# Altium integrated library ZMDI Sensor Signal Conditioner.IntLib: 63 symbols (part 2 of 3)
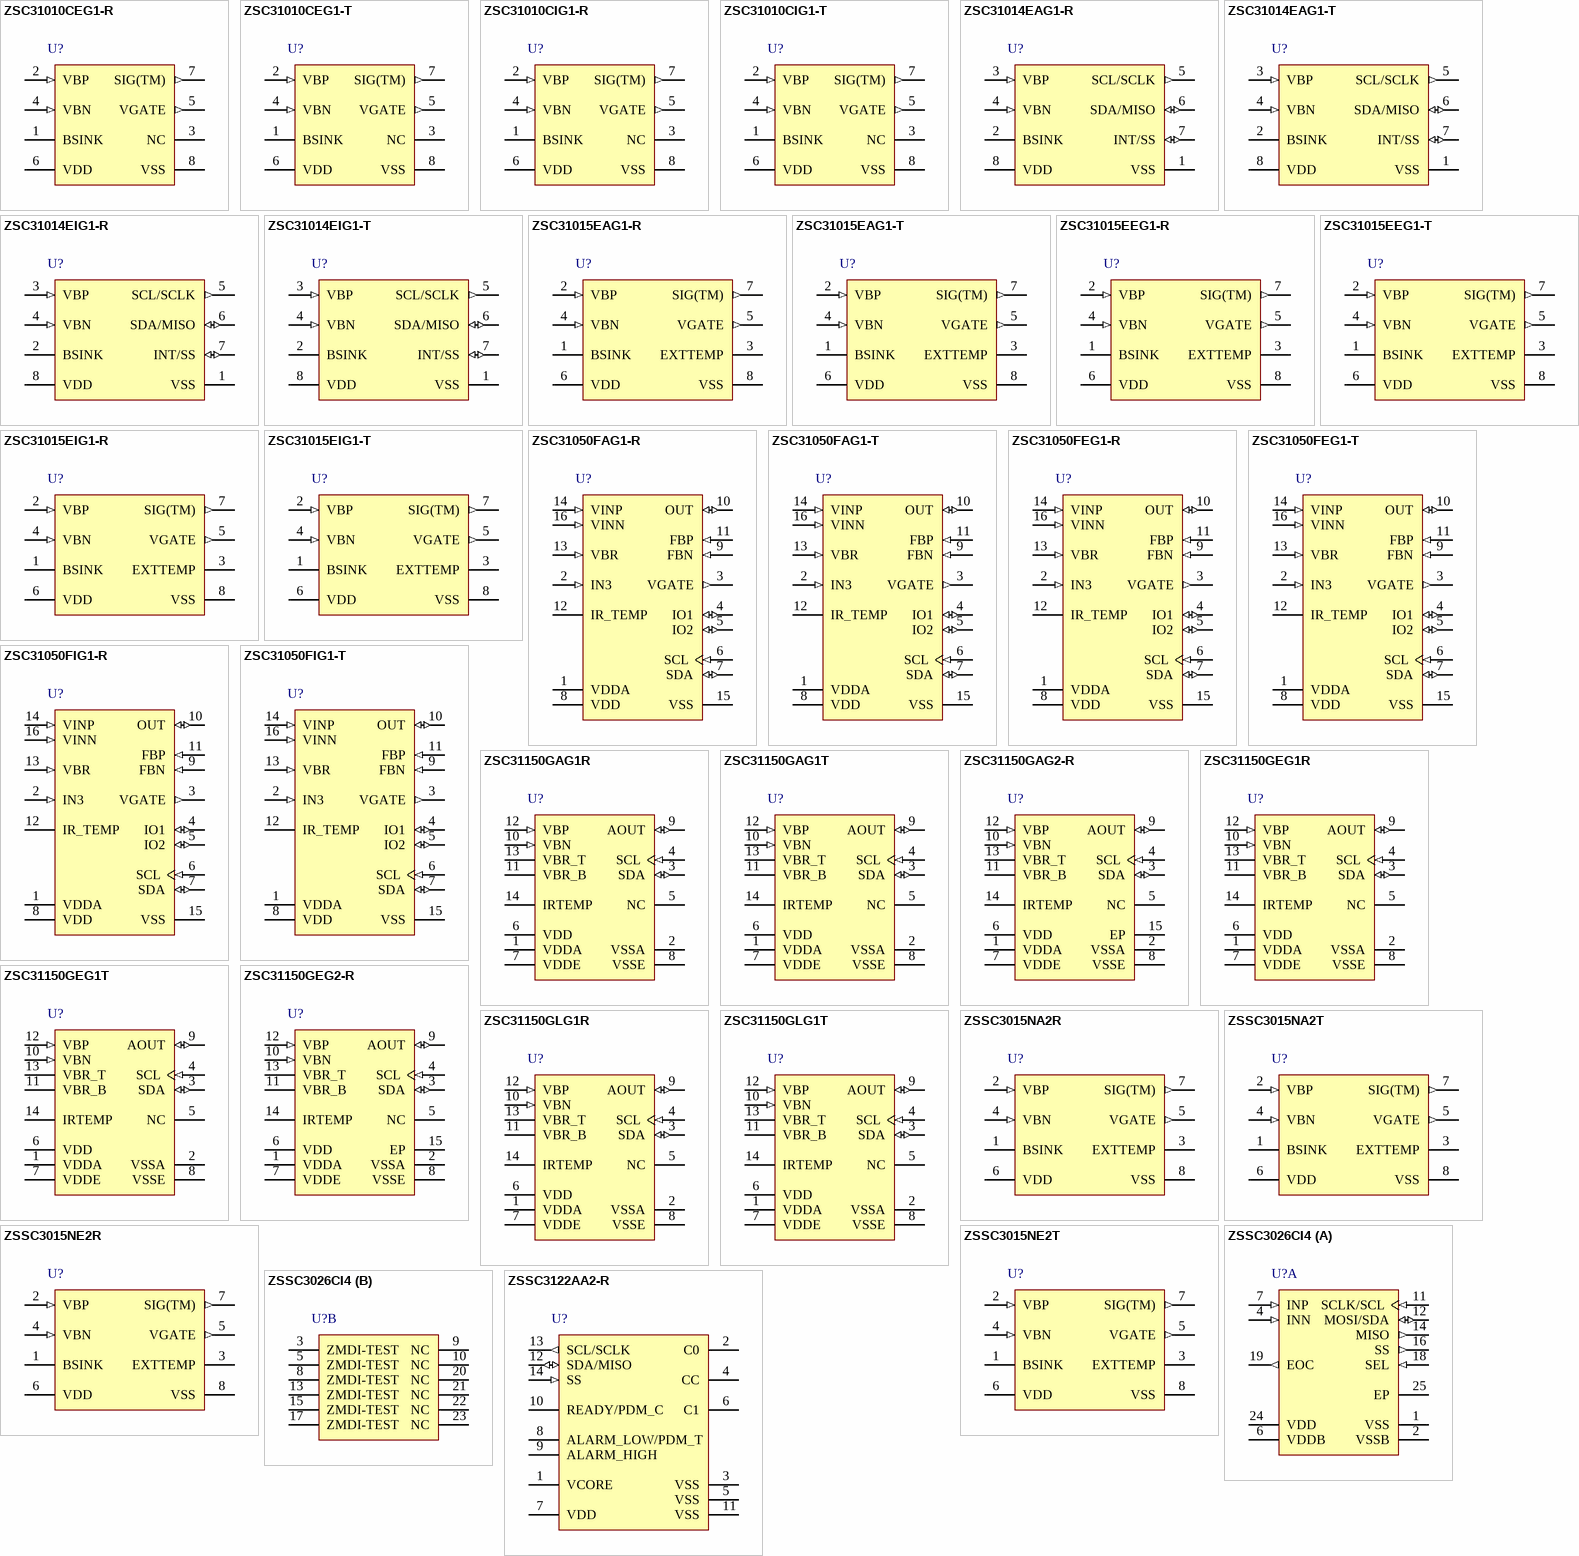
[diagram p3: symbols ZSC31010CEG1-R to ZSSC3122AA2-R]

## ZSSC3015NA2R
designator U?
RBicdLite-Auto(TM) Sensor Signal Conditioner with Diagnostics, 2.7 to 5.5 V Supply Voltage, -40 to 125 degC, 8-Pin SOP, Reel, RoHS; Manufacturer: ZMDI; PartNumber: ZSSC3015NA2R; ADC Resolution: 14; Adjustable Analog Gain Values: 6 to 96; DatasheetVersion: Rev. 1.02; PackageReference: SOP8 (150mil); PackageDescription: 8-Pin Plastic Small Outline, 4.9 x 3.9 mm Body, 1.27 mm Pitch; Supplier 1: Mouser; Supplier Part Number 1: 964-ZSSC3015NA2R; Mounting Technology: Surface Mount; ComponentLink1Description: Manufacturer URL; ComponentLink1URL: http://www.zmdi.com/; ComponentLink2Description: Datasheet; ComponentLink2URL: http://zmdi.cdistore.com/datasheets/zmdi/ZSSC3015_RBic_dLite-Auto_Data_Sheet_rev_1_02_2013-03-25.pdf; ComponentLink3Description: Package Specification; ComponentLink3URL: http://www.zmdi.com/sites/default/files/ZLED7010_DataSheet_Rev_1.1.pdf
footprint ZMDI-SOP8 (150mil)_N (SOP, 8-Leads, Body 5x4mm, Pitch 1.27mm, IPC Medium Density)
footprint ZMDI-SOP8 (150mil)_L (SOP, 8-Leads, Body 5x4mm, Pitch 1.27mm, IPC High Density)
footprint ZMDI-SOP8 (150mil)_M (SOP, 8-Leads, Body 5x4mm, Pitch 1.27mm, IPC Low Density)
pins: 1 BSINK (power) "Optional ground connection for bridge ground; used for power savings", 2 VBP (in) "Positive bridge connection", 3 EXTTEMP "External diode connection", 4 VBN (in) "Negative bridge connection", 5 VGATE (out) "Gate control for external JFET regulation/over-voltage protection", 6 VDD (power) "Supply voltage (2.7 to 5.5 V)", 7 SIG(TM) (out) "ZACwire(TM) interface (analog out, digital out, calibration interface)", 8 VSS (power) "Ground supply"

## ZSSC3015NA2T
designator U?
RBicdLite-Auto(TM) Sensor Signal Conditioner with Diagnostics, 2.7 to 5.5 V Supply Voltage, -40 to 125 degC, 8-Pin SOP, Tube, RoHS; Manufacturer: ZMDI; PartNumber: ZSSC3015NA2T; ADC Resolution: 14; Adjustable Analog Gain Values: 6 to 96; DatasheetVersion: Rev. 1.02; PackageReference: SOP8 (150mil); PackageDescription: 8-Pin Plastic Small Outline, 4.9 x 3.9 mm Body, 1.27 mm Pitch; Supplier 1: Mouser; Supplier Part Number 1: 964-ZSSC3015NA2T; Mounting Technology: Surface Mount; ComponentLink1Description: Manufacturer URL; ComponentLink1URL: http://www.zmdi.com/; ComponentLink2Description: Datasheet; ComponentLink2URL: http://zmdi.cdistore.com/datasheets/zmdi/ZSSC3015_RBic_dLite-Auto_Data_Sheet_rev_1_02_2013-03-25.pdf; ComponentLink3Description: Package Specification; ComponentLink3URL: http://www.zmdi.com/sites/default/files/ZLED7010_DataSheet_Rev_1.1.pdf
footprint ZMDI-SOP8 (150mil)_N (SOP, 8-Leads, Body 5x4mm, Pitch 1.27mm, IPC Medium Density)
footprint ZMDI-SOP8 (150mil)_L (SOP, 8-Leads, Body 5x4mm, Pitch 1.27mm, IPC High Density)
footprint ZMDI-SOP8 (150mil)_M (SOP, 8-Leads, Body 5x4mm, Pitch 1.27mm, IPC Low Density)
pins: 1 BSINK (power) "Optional ground connection for bridge ground; used for power savings", 2 VBP (in) "Positive bridge connection", 3 EXTTEMP "External diode connection", 4 VBN (in) "Negative bridge connection", 5 VGATE (out) "Gate control for external JFET regulation/over-voltage protection", 6 VDD (power) "Supply voltage (2.7 to 5.5 V)", 7 SIG(TM) (out) "ZACwire(TM) interface (analog out, digital out, calibration interface)", 8 VSS (power) "Ground supply"

## ZSSC3015NE2R
designator U?
RBicdLite-Auto(TM) Sensor Signal Conditioner with Diagnostics, 2.7 to 5.5 V Supply Voltage, -50 to 150 degC, 8-Pin SOP, Reel, RoHS; Manufacturer: ZMDI; PartNumber: ZSSC3015NE2R; ADC Resolution: 14; Adjustable Analog Gain Values: 6 to 96; DatasheetVersion: Rev. 1.02; PackageReference: SOP8 (150mil); PackageDescription: 8-Pin Plastic Small Outline, 4.9 x 3.9 mm Body, 1.27 mm Pitch; Supplier 1: Mouser; Supplier Part Number 1: 964-ZSSC3015NE2R; Mounting Technology: Surface Mount; ComponentLink1Description: Manufacturer URL; ComponentLink1URL: http://www.zmdi.com/; ComponentLink2Description: Datasheet; ComponentLink2URL: http://zmdi.cdistore.com/datasheets/zmdi/ZSSC3015_RBic_dLite-Auto_Data_Sheet_rev_1_02_2013-03-25.pdf; ComponentLink3Description: Package Specification; ComponentLink3URL: http://www.zmdi.com/sites/default/files/ZLED7010_DataSheet_Rev_1.1.pdf
footprint ZMDI-SOP8 (150mil)_N (SOP, 8-Leads, Body 5x4mm, Pitch 1.27mm, IPC Medium Density)
footprint ZMDI-SOP8 (150mil)_L (SOP, 8-Leads, Body 5x4mm, Pitch 1.27mm, IPC High Density)
footprint ZMDI-SOP8 (150mil)_M (SOP, 8-Leads, Body 5x4mm, Pitch 1.27mm, IPC Low Density)
pins: 1 BSINK (power) "Optional ground connection for bridge ground; used for power savings", 2 VBP (in) "Positive bridge connection", 3 EXTTEMP "External diode connection", 4 VBN (in) "Negative bridge connection", 5 VGATE (out) "Gate control for external JFET regulation/over-voltage protection", 6 VDD (power) "Supply voltage (2.7 to 5.5 V)", 7 SIG(TM) (out) "ZACwire(TM) interface (analog out, digital out, calibration interface)", 8 VSS (power) "Ground supply"

## ZSSC3015NE2T
designator U?
RBicdLite-Auto(TM) Sensor Signal Conditioner with Diagnostics, 2.7 to 5.5 V Supply Voltage, -50 to 150 degC, 8-Pin SOP, Tube, RoHS; Manufacturer: ZMDI; PartNumber: ZSSC3015NE2T; ADC Resolution: 14; Adjustable Analog Gain Values: 6 to 96; DatasheetVersion: Rev. 1.02; PackageReference: SOP8 (150mil); PackageDescription: 8-Pin Plastic Small Outline, 4.9 x 3.9 mm Body, 1.27 mm Pitch; Supplier 1: Mouser; Supplier Part Number 1: 964-ZSSC3015NE2T; Mounting Technology: Surface Mount; ComponentLink1Description: Manufacturer URL; ComponentLink1URL: http://www.zmdi.com/; ComponentLink2Description: Datasheet; ComponentLink2URL: http://zmdi.cdistore.com/datasheets/zmdi/ZSSC3015_RBic_dLite-Auto_Data_Sheet_rev_1_02_2013-03-25.pdf; ComponentLink3Description: Package Specification; ComponentLink3URL: http://www.zmdi.com/sites/default/files/ZLED7010_DataSheet_Rev_1.1.pdf
footprint ZMDI-SOP8 (150mil)_N (SOP, 8-Leads, Body 5x4mm, Pitch 1.27mm, IPC Medium Density)
footprint ZMDI-SOP8 (150mil)_L (SOP, 8-Leads, Body 5x4mm, Pitch 1.27mm, IPC High Density)
footprint ZMDI-SOP8 (150mil)_M (SOP, 8-Leads, Body 5x4mm, Pitch 1.27mm, IPC Low Density)
pins: 1 BSINK (power) "Optional ground connection for bridge ground; used for power savings", 2 VBP (in) "Positive bridge connection", 3 EXTTEMP "External diode connection", 4 VBN (in) "Negative bridge connection", 5 VGATE (out) "Gate control for external JFET regulation/over-voltage protection", 6 VDD (power) "Supply voltage (2.7 to 5.5 V)", 7 SIG(TM) (out) "ZACwire(TM) interface (analog out, digital out, calibration interface)", 8 VSS (power) "Ground supply"

## ZSSC3026CI4
designator U?
Low Power, High Resolution 16-Bit Sensor Signal Conditioner, 1.8 to 3.6 V Supply Voltage, -40 to 110 degC, 24-Pin PQFN, RoHS; Manufacturer: ZMDI; PartNumber: ZSSC3026CI4; ADC Resolution: 16; DatasheetVersion: Rev. 1.02; PackageReference: PQFN24; PackageDescription: 24-Pin Plastic Quad Flatpack, No Leads, 4 x 4 mm Body, 0.5 mm Pitch, 2.6 x 2.6 mm Exposed Pad; Supplier 1: Mouser; Supplier Part Number 1: 964-ZSSC3026CI4RH; Mounting Technology: Surface Mount; ComponentLink1Description: Manufacturer URL; ComponentLink1URL: http://www.zmdi.com/; ComponentLink2Description: Datasheet; ComponentLink2URL: http://zmdi.cdistore.com/datasheets/zmdi/ZSSC3026_DataSheet_v1p02.pdf; ComponentLink3Description: Package Specification; ComponentLink3URL: http://zmdi.cdistore.com/datasheets/zmdi/ZSSC3026_DataSheet_v1p02.pdf
footprint ZMDI-PQFN24_N (QFN, 24-Leads, Body 4.1x4.1mm, Pitch 0.5mm, Thermal Pad 2.6x2.6mm, IPC Medium Density)
footprint ZMDI-PQFN24_L (QFN, 24-Leads, Body 4.1x4.1mm, Pitch 0.5mm, Thermal Pad 2.6x2.6mm, IPC High Density)
footprint ZMDI-PQFN24_M (QFN, 24-Leads, Body 4.1x4.1mm, Pitch 0.5mm, Thermal Pad 2.6x2.6mm, IPC Low Density)
part A pins: 1 VSS (power) "ground reference voltage signal", 2 VSSB (power) "sensor bridge's ground", 4 INN (in) "negative bridge signal", 6 VDDB (power) "sensor bridge's supply (driven from the IC), Remark: Do not short with VDD!", 7 INP (in) "positive bridge signal", 11 SCLK/SCL (in) "clock input for I2C / SPI", 12 MOSI/SDA (io) "data input for SPI, data in/out-line for I2C", 14 MISO (out) "data output for SPI", 16 SS (out) "slave select for SPI", 18 SEL (in) "I2C or SPI Interface select (internal pull up, 0...SPI, 1...I2C)", 19 EOC (out) "end of conversion...can be used as "measurement completed" trigger", 24 VDD (power) "IC's supply voltage", 25 EP
part B pins: 3 ZMDI-TEST "do not connect", 5 ZMDI-TEST "do not connect", 8 ZMDI-TEST "do not connect", 9 NC, 10 NC, 13 ZMDI-TEST "do not connect", 15 ZMDI-TEST "do not connect", 17 ZMDI-TEST "do not connect", 20 NC, 21 NC, 22 NC, 23 NC

## ZSSC3122AA2-R
designator U?
cLite(TM) Low-Voltage Capacitive Sensor Signal Conditioner, 1.8 to 5.5 V Supply Voltage, -40 to 125 degC, 14-Pin TSSOP, Reel, RoHS; Manufacturer: ZMDI; PartNumber: ZSSC3122AA2-R; ADC Resolution: 14; Input Capacitance (pF): 2 to 10; DatasheetVersion: Rev. 1.51; PackageReference: TSSOP14; PackageDescription: 14-Pin Thin Shrink Small Outline Package, 5 x 4.4 mm Body, 0.65 mm Pitch; Supplier 1: Mouser; Supplier Part Number 1: 964-ZSSC3122AA2R; Mounting Technology: Surface Mount; ComponentLink1Description: Manufacturer URL; ComponentLink1URL: http://www.zmdi.com/; ComponentLink2Description: Datasheet; ComponentLink2URL: http://www.zmdi.com/sites/default/files/ZSSC3122_cLite_Data_Sheet_rev_1_51_2013-07-04.pdf; ComponentLink3Description: Package Specification; ComponentLink3URL: http://www.zmdi.com/sites/default/files/ZSSC3122_cLite_Data_Sheet_rev_1_51_2013-07-04.pdf
footprint ZMDI-TSSOP14_N (TSSOP, 14-Leads, Body 5.1x4.5mm, Pitch 0.65mm, IPC Medium Density)
footprint ZMDI-TSSOP14_L (TSSOP, 14-Leads, Body 5.1x4.5mm, Pitch 0.65mm, IPC High Density)
footprint ZMDI-TSSOP14_M (TSSOP, 14-Leads, Body 5.1x4.5mm, Pitch 0.65mm, IPC Low Density)
pins: 1 VCORE (power) "Core voltage", 2 C0 "Capacitor input 0", 3 VSS (power) "Ground supply", 4 CC "Common capacitor input", 5 VSS (power) "Ground supply", 6 C1 "Capacitor input 1", 7 VDD (power), 8 ALARM_LOW/PDM_T (oc) "Low alarm output, Temperature PDM", 9 ALARM_HIGH (oc) "High alarm output", 10 READY/PDM_C (oc) "Ready signal (conversion complete output), Capacitance PDM", 11 VSS (power) "Ground supply", 12 SDA/MISO (io) "I2C(TM) data if in I2C(TM) Mode, Master-In-Slave-Out if in SPI Mode", 13 SCL/SCLK (out) "I2C(TM) clock if in I2C(TM) Mode, Serial clock if in SPI Mode", 14 SS (in) "Slave Select (input) if in SPI Mode"

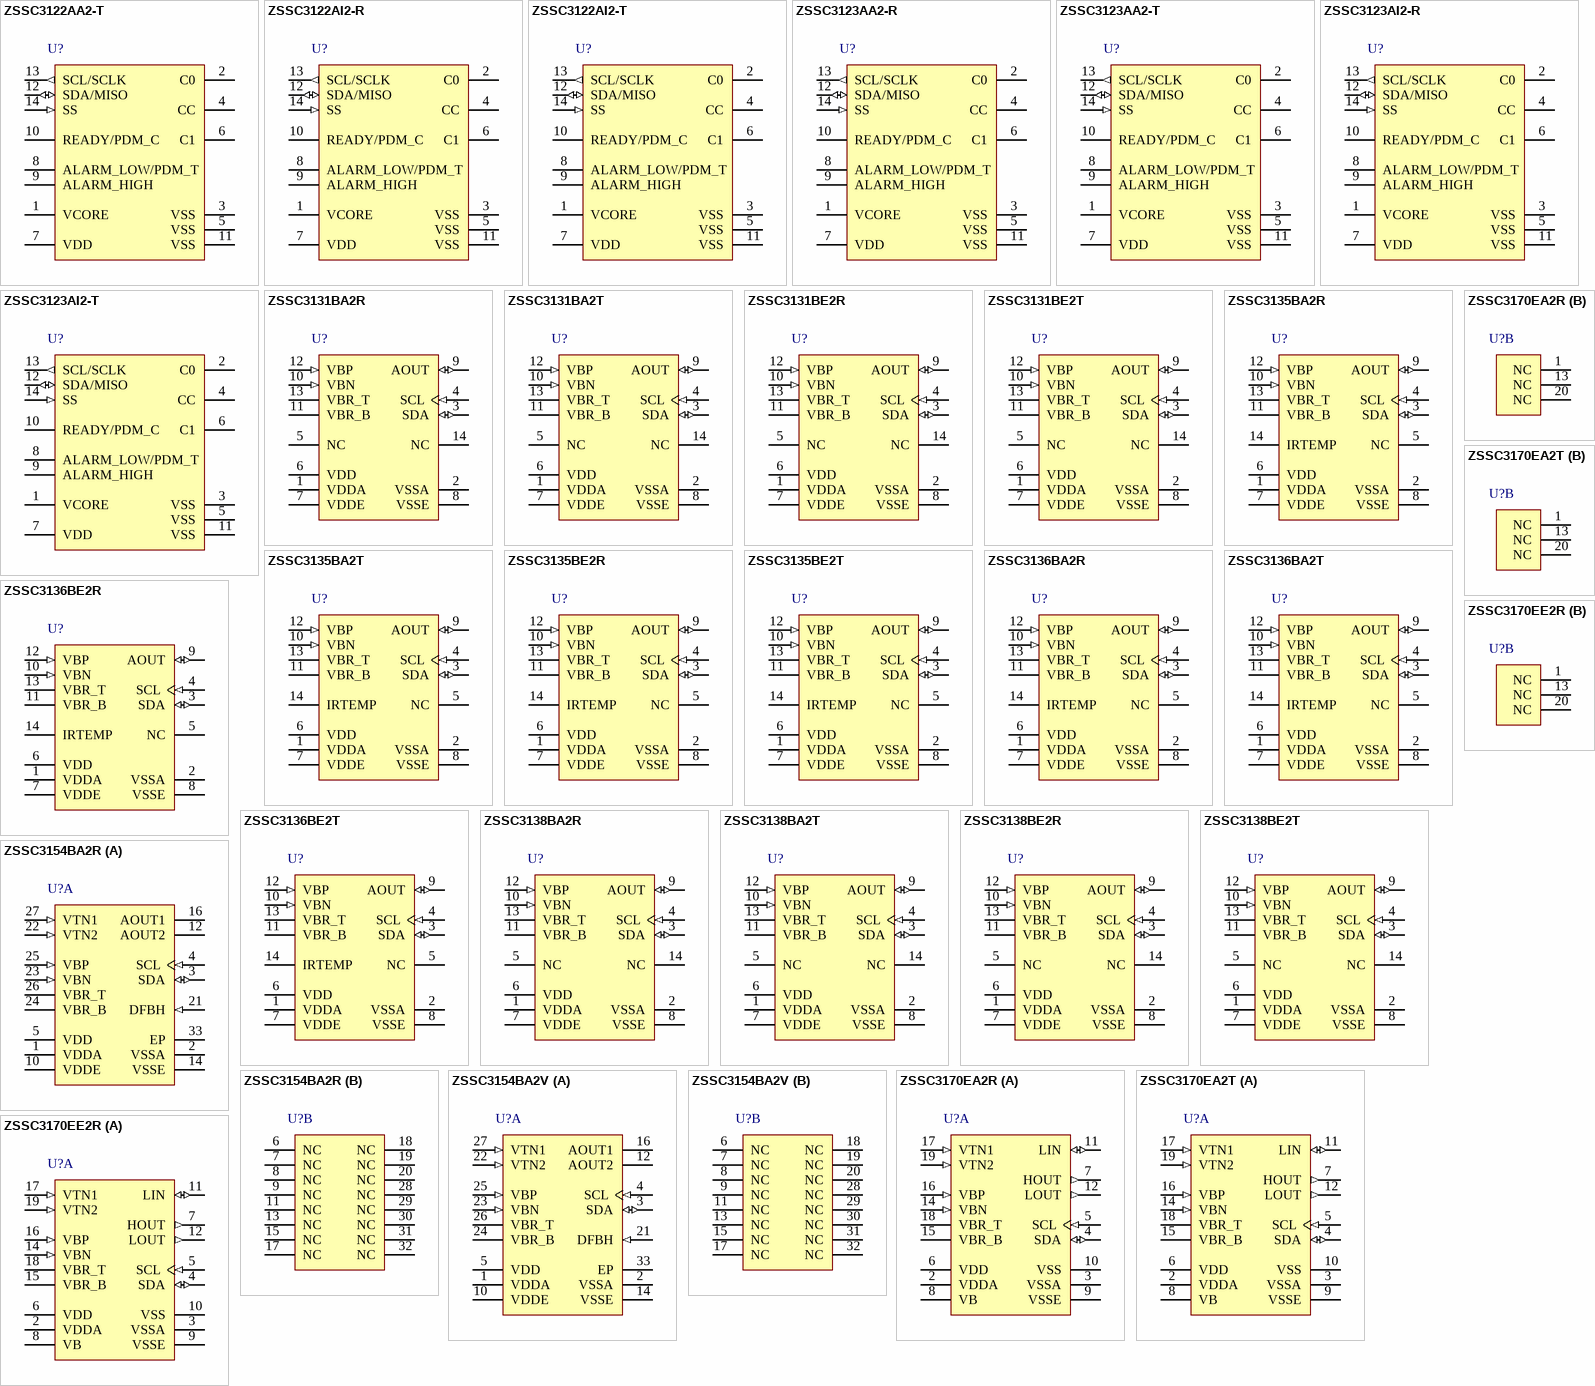
[diagram p1: symbols ZSSC3122AA2-T to ZSSC3170EE2R]

## ZSSC3122AA2-T
designator U?
cLite(TM) Low-Voltage Capacitive Sensor Signal Conditioner, 1.8 to 5.5 V Supply Voltage, -40 to 125 degC, 14-Pin TSSOP, Tube, RoHS; Manufacturer: ZMDI; PartNumber: ZSSC3122AA2-T; ADC Resolution: 14; Input Capacitance (pF): 2 to 10; DatasheetVersion: Rev. 1.51; PackageReference: TSSOP14; PackageDescription: 14-Pin Thin Shrink Small Outline Package, 5 x 4.4 mm Body, 0.65 mm Pitch; Supplier 1: Mouser; Supplier Part Number 1: 964-ZSSC3122AA2T; Mounting Technology: Surface Mount; ComponentLink1Description: Manufacturer URL; ComponentLink1URL: http://www.zmdi.com/; ComponentLink2Description: Datasheet; ComponentLink2URL: http://www.zmdi.com/sites/default/files/ZSSC3122_cLite_Data_Sheet_rev_1_51_2013-07-04.pdf; ComponentLink3Description: Package Specification; ComponentLink3URL: http://www.zmdi.com/sites/default/files/ZSSC3122_cLite_Data_Sheet_rev_1_51_2013-07-04.pdf
footprint ZMDI-TSSOP14_N (TSSOP, 14-Leads, Body 5.1x4.5mm, Pitch 0.65mm, IPC Medium Density)
footprint ZMDI-TSSOP14_L (TSSOP, 14-Leads, Body 5.1x4.5mm, Pitch 0.65mm, IPC High Density)
footprint ZMDI-TSSOP14_M (TSSOP, 14-Leads, Body 5.1x4.5mm, Pitch 0.65mm, IPC Low Density)
pins: 1 VCORE (power) "Core voltage", 2 C0 "Capacitor input 0", 3 VSS (power) "Ground supply", 4 CC "Common capacitor input", 5 VSS (power) "Ground supply", 6 C1 "Capacitor input 1", 7 VDD (power), 8 ALARM_LOW/PDM_T (oc) "Low alarm output, Temperature PDM", 9 ALARM_HIGH (oc) "High alarm output", 10 READY/PDM_C (oc) "Ready signal (conversion complete output), Capacitance PDM", 11 VSS (power) "Ground supply", 12 SDA/MISO (io) "I2C(TM) data if in I2C(TM) Mode, Master-In-Slave-Out if in SPI Mode", 13 SCL/SCLK (out) "I2C(TM) clock if in I2C(TM) Mode, Serial clock if in SPI Mode", 14 SS (in) "Slave Select (input) if in SPI Mode"

## ZSSC3122AI2-R
designator U?
cLite(TM) Low-Voltage Capacitive Sensor Signal Conditioner, 1.8 to 5.5 V Supply Voltage, -40 to 85 degC, 14-Pin TSSOP, Reel, RoHS; Manufacturer: ZMDI; PartNumber: ZSSC3122AI2-R; ADC Resolution: 14; Input Capacitance (pF): 2 to 10; DatasheetVersion: Rev. 1.51; PackageReference: TSSOP14; PackageDescription: 14-Pin Thin Shrink Small Outline Package, 5 x 4.4 mm Body, 0.65 mm Pitch; Mounting Technology: Surface Mount; ComponentLink1Description: Manufacturer URL; ComponentLink1URL: http://www.zmdi.com/; ComponentLink2Description: Datasheet; ComponentLink2URL: http://www.zmdi.com/sites/default/files/ZSSC3122_cLite_Data_Sheet_rev_1_51_2013-07-04.pdf; ComponentLink3Description: Package Specification; ComponentLink3URL: http://www.zmdi.com/sites/default/files/ZSSC3122_cLite_Data_Sheet_rev_1_51_2013-07-04.pdf
footprint ZMDI-TSSOP14_N (TSSOP, 14-Leads, Body 5.1x4.5mm, Pitch 0.65mm, IPC Medium Density)
footprint ZMDI-TSSOP14_L (TSSOP, 14-Leads, Body 5.1x4.5mm, Pitch 0.65mm, IPC High Density)
footprint ZMDI-TSSOP14_M (TSSOP, 14-Leads, Body 5.1x4.5mm, Pitch 0.65mm, IPC Low Density)
pins: 1 VCORE (power) "Core voltage", 2 C0 "Capacitor input 0", 3 VSS (power) "Ground supply", 4 CC "Common capacitor input", 5 VSS (power) "Ground supply", 6 C1 "Capacitor input 1", 7 VDD (power), 8 ALARM_LOW/PDM_T (oc) "Low alarm output, Temperature PDM", 9 ALARM_HIGH (oc) "High alarm output", 10 READY/PDM_C (oc) "Ready signal (conversion complete output), Capacitance PDM", 11 VSS (power) "Ground supply", 12 SDA/MISO (io) "I2C(TM) data if in I2C(TM) Mode, Master-In-Slave-Out if in SPI Mode", 13 SCL/SCLK (out) "I2C(TM) clock if in I2C(TM) Mode, Serial clock if in SPI Mode", 14 SS (in) "Slave Select (input) if in SPI Mode"

## ZSSC3122AI2-T
designator U?
cLite(TM) Low-Voltage Capacitive Sensor Signal Conditioner, 1.8 to 5.5 V Supply Voltage, -40 to 85 degC, 14-Pin TSSOP, Tube, RoHS; Manufacturer: ZMDI; PartNumber: ZSSC3122AI2-T; ADC Resolution: 14; Input Capacitance (pF): 2 to 10; DatasheetVersion: Rev. 1.51; PackageReference: TSSOP14; PackageDescription: 14-Pin Thin Shrink Small Outline Package, 5 x 4.4 mm Body, 0.65 mm Pitch; Mounting Technology: Surface Mount; ComponentLink1Description: Manufacturer URL; ComponentLink1URL: http://www.zmdi.com/; ComponentLink2Description: Datasheet; ComponentLink2URL: http://www.zmdi.com/sites/default/files/ZSSC3122_cLite_Data_Sheet_rev_1_51_2013-07-04.pdf; ComponentLink3Description: Package Specification; ComponentLink3URL: http://www.zmdi.com/sites/default/files/ZSSC3122_cLite_Data_Sheet_rev_1_51_2013-07-04.pdf
footprint ZMDI-TSSOP14_N (TSSOP, 14-Leads, Body 5.1x4.5mm, Pitch 0.65mm, IPC Medium Density)
footprint ZMDI-TSSOP14_L (TSSOP, 14-Leads, Body 5.1x4.5mm, Pitch 0.65mm, IPC High Density)
footprint ZMDI-TSSOP14_M (TSSOP, 14-Leads, Body 5.1x4.5mm, Pitch 0.65mm, IPC Low Density)
pins: 1 VCORE (power) "Core voltage", 2 C0 "Capacitor input 0", 3 VSS (power) "Ground supply", 4 CC "Common capacitor input", 5 VSS (power) "Ground supply", 6 C1 "Capacitor input 1", 7 VDD (power), 8 ALARM_LOW/PDM_T (oc) "Low alarm output, Temperature PDM", 9 ALARM_HIGH (oc) "High alarm output", 10 READY/PDM_C (oc) "Ready signal (conversion complete output), Capacitance PDM", 11 VSS (power) "Ground supply", 12 SDA/MISO (io) "I2C(TM) data if in I2C(TM) Mode, Master-In-Slave-Out if in SPI Mode", 13 SCL/SCLK (out) "I2C(TM) clock if in I2C(TM) Mode, Serial clock if in SPI Mode", 14 SS (in) "Slave Select (input) if in SPI Mode"

## ZSSC3123AA2-R
designator U?
cLite(TM) Capacitive Sensor Signal Conditioner, 2.3 to 5.5 V Supply Voltage, -40 to 125 degC, 14-Pin TSSOP, Reel, RoHS; Manufacturer: ZMDI; PartNumber: ZSSC3123AA2-R; ADC Resolution: 14; Input Capacitance (pF): 2 to 260; DatasheetVersion: Rev. 1.61; PackageReference: TSSOP14; PackageDescription: 14-Pin Thin Shrink Small Outline Package, 5 x 4.4 mm Body, 0.65 mm Pitch; Supplier 1: Mouser; Supplier Part Number 1: 964-ZSSC3123AA2R; Mounting Technology: Surface Mount; ComponentLink1Description: Manufacturer URL; ComponentLink1URL: http://www.zmdi.com/; ComponentLink2Description: Datasheet; ComponentLink2URL: http://www.zmdi.com/sites/default/files/ZSSC3123_cLite_Data_Sheet_rev_1_61_2013_07-04.pdf; ComponentLink3Description: Package Specification; ComponentLink3URL: http://www.zmdi.com/sites/default/files/ZSSC3122_cLite_Data_Sheet_rev_1_51_2013-07-04.pdf
footprint ZMDI-TSSOP14_N (TSSOP, 14-Leads, Body 5.1x4.5mm, Pitch 0.65mm, IPC Medium Density)
footprint ZMDI-TSSOP14_L (TSSOP, 14-Leads, Body 5.1x4.5mm, Pitch 0.65mm, IPC High Density)
footprint ZMDI-TSSOP14_M (TSSOP, 14-Leads, Body 5.1x4.5mm, Pitch 0.65mm, IPC Low Density)
pins: 1 VCORE (power) "Core voltage", 2 C0 "Capacitor input 0", 3 VSS (power) "Ground supply", 4 CC "Common capacitor input", 5 VSS (power) "Ground supply", 6 C1 "Capacitor input 1", 7 VDD (power), 8 ALARM_LOW/PDM_T (oc) "Low alarm output, Temperature PDM", 9 ALARM_HIGH (oc) "High alarm output", 10 READY/PDM_C (oc) "Ready signal (conversion complete output), Capacitance PDM", 11 VSS (power) "Ground supply", 12 SDA/MISO (io) "I2C(TM) data if in I2C(TM) Mode, Master-In-Slave-Out if in SPI Mode", 13 SCL/SCLK (out) "I2C(TM) clock if in I2C(TM) Mode, Serial clock if in SPI Mode", 14 SS (in) "Slave Select (input) if in SPI Mode"

## ZSSC3123AA2-T
designator U?
cLite(TM) Capacitive Sensor Signal Conditioner, 2.3 to 5.5 V Supply Voltage, -40 to 125 degC, 14-Pin TSSOP, Tube, RoHS; Manufacturer: ZMDI; PartNumber: ZSSC3123AA2-T; ADC Resolution: 14; Input Capacitance (pF): 2 to 260; DatasheetVersion: Rev. 1.61; PackageReference: TSSOP14; PackageDescription: 14-Pin Thin Shrink Small Outline Package, 5 x 4.4 mm Body, 0.65 mm Pitch; Supplier 1: Mouser; Supplier Part Number 1: 964-ZSSC3123AA2T; Mounting Technology: Surface Mount; ComponentLink1Description: Manufacturer URL; ComponentLink1URL: http://www.zmdi.com/; ComponentLink2Description: Datasheet; ComponentLink2URL: http://www.zmdi.com/sites/default/files/ZSSC3123_cLite_Data_Sheet_rev_1_61_2013_07-04.pdf; ComponentLink3Description: Package Specification; ComponentLink3URL: http://www.zmdi.com/sites/default/files/ZSSC3122_cLite_Data_Sheet_rev_1_51_2013-07-04.pdf
footprint ZMDI-TSSOP14_N (TSSOP, 14-Leads, Body 5.1x4.5mm, Pitch 0.65mm, IPC Medium Density)
footprint ZMDI-TSSOP14_L (TSSOP, 14-Leads, Body 5.1x4.5mm, Pitch 0.65mm, IPC High Density)
footprint ZMDI-TSSOP14_M (TSSOP, 14-Leads, Body 5.1x4.5mm, Pitch 0.65mm, IPC Low Density)
pins: 1 VCORE (power) "Core voltage", 2 C0 "Capacitor input 0", 3 VSS (power) "Ground supply", 4 CC "Common capacitor input", 5 VSS (power) "Ground supply", 6 C1 "Capacitor input 1", 7 VDD (power), 8 ALARM_LOW/PDM_T (oc) "Low alarm output, Temperature PDM", 9 ALARM_HIGH (oc) "High alarm output", 10 READY/PDM_C (oc) "Ready signal (conversion complete output), Capacitance PDM", 11 VSS (power) "Ground supply", 12 SDA/MISO (io) "I2C(TM) data if in I2C(TM) Mode, Master-In-Slave-Out if in SPI Mode", 13 SCL/SCLK (out) "I2C(TM) clock if in I2C(TM) Mode, Serial clock if in SPI Mode", 14 SS (in) "Slave Select (input) if in SPI Mode"

## ZSSC3123AI2-R
designator U?
cLite(TM) Capacitive Sensor Signal Conditioner, 2.3 to 5.5 V Supply Voltage, -40 to 85 degC, 14-Pin TSSOP, Reel, RoHS; Manufacturer: ZMDI; PartNumber: ZSSC3123AI2-R; ADC Resolution: 14; Input Capacitance (pF): 2 to 260; DatasheetVersion: Rev. 1.61; PackageReference: TSSOP14; PackageDescription: 14-Pin Thin Shrink Small Outline Package, 5 x 4.4 mm Body, 0.65 mm Pitch; Mounting Technology: Surface Mount; ComponentLink1Description: Manufacturer URL; ComponentLink1URL: http://www.zmdi.com/; ComponentLink2Description: Datasheet; ComponentLink2URL: http://www.zmdi.com/sites/default/files/ZSSC3123_cLite_Data_Sheet_rev_1_61_2013_07-04.pdf; ComponentLink3Description: Package Specification; ComponentLink3URL: http://www.zmdi.com/sites/default/files/ZSSC3122_cLite_Data_Sheet_rev_1_51_2013-07-04.pdf
footprint ZMDI-TSSOP14_N (TSSOP, 14-Leads, Body 5.1x4.5mm, Pitch 0.65mm, IPC Medium Density)
footprint ZMDI-TSSOP14_L (TSSOP, 14-Leads, Body 5.1x4.5mm, Pitch 0.65mm, IPC High Density)
footprint ZMDI-TSSOP14_M (TSSOP, 14-Leads, Body 5.1x4.5mm, Pitch 0.65mm, IPC Low Density)
pins: 1 VCORE (power) "Core voltage", 2 C0 "Capacitor input 0", 3 VSS (power) "Ground supply", 4 CC "Common capacitor input", 5 VSS (power) "Ground supply", 6 C1 "Capacitor input 1", 7 VDD (power), 8 ALARM_LOW/PDM_T (oc) "Low alarm output, Temperature PDM", 9 ALARM_HIGH (oc) "High alarm output", 10 READY/PDM_C (oc) "Ready signal (conversion complete output), Capacitance PDM", 11 VSS (power) "Ground supply", 12 SDA/MISO (io) "I2C(TM) data if in I2C(TM) Mode, Master-In-Slave-Out if in SPI Mode", 13 SCL/SCLK (out) "I2C(TM) clock if in I2C(TM) Mode, Serial clock if in SPI Mode", 14 SS (in) "Slave Select (input) if in SPI Mode"

## ZSSC3123AI2-T
designator U?
cLite(TM) Capacitive Sensor Signal Conditioner, 2.3 to 5.5 V Supply Voltage, -40 to 85 degC, 14-Pin TSSOP, Tube, RoHS; Manufacturer: ZMDI; PartNumber: ZSSC3123AI2-T; ADC Resolution: 14; Input Capacitance (pF): 2 to 260; DatasheetVersion: Rev. 1.61; PackageReference: TSSOP14; PackageDescription: 14-Pin Thin Shrink Small Outline Package, 5 x 4.4 mm Body, 0.65 mm Pitch; Mounting Technology: Surface Mount; ComponentLink1Description: Manufacturer URL; ComponentLink1URL: http://www.zmdi.com/; ComponentLink2Description: Datasheet; ComponentLink2URL: http://www.zmdi.com/sites/default/files/ZSSC3123_cLite_Data_Sheet_rev_1_61_2013_07-04.pdf; ComponentLink3Description: Package Specification; ComponentLink3URL: http://www.zmdi.com/sites/default/files/ZSSC3122_cLite_Data_Sheet_rev_1_51_2013-07-04.pdf
footprint ZMDI-TSSOP14_N (TSSOP, 14-Leads, Body 5.1x4.5mm, Pitch 0.65mm, IPC Medium Density)
footprint ZMDI-TSSOP14_L (TSSOP, 14-Leads, Body 5.1x4.5mm, Pitch 0.65mm, IPC High Density)
footprint ZMDI-TSSOP14_M (TSSOP, 14-Leads, Body 5.1x4.5mm, Pitch 0.65mm, IPC Low Density)
pins: 1 VCORE (power) "Core voltage", 2 C0 "Capacitor input 0", 3 VSS (power) "Ground supply", 4 CC "Common capacitor input", 5 VSS (power) "Ground supply", 6 C1 "Capacitor input 1", 7 VDD (power), 8 ALARM_LOW/PDM_T (oc) "Low alarm output, Temperature PDM", 9 ALARM_HIGH (oc) "High alarm output", 10 READY/PDM_C (oc) "Ready signal (conversion complete output), Capacitance PDM", 11 VSS (power) "Ground supply", 12 SDA/MISO (io) "I2C(TM) data if in I2C(TM) Mode, Master-In-Slave-Out if in SPI Mode", 13 SCL/SCLK (out) "I2C(TM) clock if in I2C(TM) Mode, Serial clock if in SPI Mode", 14 SS (in) "Slave Select (input) if in SPI Mode"

## ZSSC3131BA2R
designator U?
Sensor Signal Conditioner for Cost-Optimized Switch Applications, 4.5 to 5.5 V Supply Voltage, -40 to 125 degC, 14-Pin SSOP, Reel, RoHS; Manufacturer: ZMDI; PartNumber: ZSSC3131BA2R; ADC Resolution: 14; Adjustable Analog Gain Values: 2.8 to 105; DatasheetVersion: Rev. 1.21; PackageReference: SSOP14; PackageDescription: 14-Pin Shrink Small Outline Package, 6.2 x 5.29 mm Body, 0.65 mm Pitch; Supplier 1: Mouser; Supplier Part Number 1: 964-ZSSC3131BA2R; Mounting Technology: Surface Mount; ComponentLink1Description: Manufacturer URL; ComponentLink1URL: http://www.zmdi.com/; ComponentLink2Description: Datasheet; ComponentLink2URL: http://zmdi.cdistore.com/datasheets/zmdi/ZSSC3131_Data_Sheet_Rev_1_21_2013-02-15.pdf; ComponentLink3Description: Package Specification; ComponentLink3URL: http://zmdi.cdistore.com/datasheets/zmdi/ZSC31150_Data_Sheet_Rev_2_00_2012-10-15.pdf
footprint ZMDI-SSOP14_N (SOP, 14-Leads, Body 6.3x5.4mm, Pitch 0.65mm, IPC Medium Density)
footprint ZMDI-SSOP14_L (SOP, 14-Leads, Body 6.3x5.4mm, Pitch 0.65mm, IPC High Density)
footprint ZMDI-SSOP14_M (SOP, 14-Leads, Body 6.3x5.4mm, Pitch 0.65mm, IPC Low Density)
pins: 1 VDDA (power) "Positive Analog Supply Voltage", 2 VSSA (power) "Negative Analog Supply Voltage", 3 SDA (io) "I2C(TM) Serial Data", 4 SCL (in) "I2C(TM) Clock", 5 NC "Not connected", 6 VDD (power) "Positive Digital Supply Voltage", 7 VDDE (power) "Positive External Supply Voltage", 8 VSSE (power) "Negative External Supply Voltage", 9 AOUT (io) "Analog Output and ZACwire(TM) Serial Data", 10 VBN (in) "Negative Input from Sensor Bridge", 11 VBR_B (power) "Negative Sensor Bridge Supply Voltage", 12 VBP (in) "Positive Input from Sensor Bridge", 13 VBR_T (power) "Positive Sensor Bridge Supply Voltage", 14 NC "Not connected"

## ZSSC3131BA2T
designator U?
Sensor Signal Conditioner for Cost-Optimized Switch Applications, 4.5 to 5.5 V Supply Voltage, -40 to 125 degC, 14-Pin SSOP, Tube, RoHS; Manufacturer: ZMDI; PartNumber: ZSSC3131BA2T; ADC Resolution: 14; Adjustable Analog Gain Values: 2.8 to 105; DatasheetVersion: Rev. 1.21; PackageReference: SSOP14; PackageDescription: 14-Pin Shrink Small Outline Package, 6.2 x 5.29 mm Body, 0.65 mm Pitch; Supplier 1: Mouser; Supplier Part Number 1: 964-ZSSC3131BA2T; Mounting Technology: Surface Mount; ComponentLink1Description: Manufacturer URL; ComponentLink1URL: http://www.zmdi.com/; ComponentLink2Description: Datasheet; ComponentLink2URL: http://zmdi.cdistore.com/datasheets/zmdi/ZSSC3131_Data_Sheet_Rev_1_21_2013-02-15.pdf; ComponentLink3Description: Package Specification; ComponentLink3URL: http://zmdi.cdistore.com/datasheets/zmdi/ZSC31150_Data_Sheet_Rev_2_00_2012-10-15.pdf
footprint ZMDI-SSOP14_N (SOP, 14-Leads, Body 6.3x5.4mm, Pitch 0.65mm, IPC Medium Density)
footprint ZMDI-SSOP14_L (SOP, 14-Leads, Body 6.3x5.4mm, Pitch 0.65mm, IPC High Density)
footprint ZMDI-SSOP14_M (SOP, 14-Leads, Body 6.3x5.4mm, Pitch 0.65mm, IPC Low Density)
pins: 1 VDDA (power) "Positive Analog Supply Voltage", 2 VSSA (power) "Negative Analog Supply Voltage", 3 SDA (io) "I2C(TM) Serial Data", 4 SCL (in) "I2C(TM) Clock", 5 NC "Not connected", 6 VDD (power) "Positive Digital Supply Voltage", 7 VDDE (power) "Positive External Supply Voltage", 8 VSSE (power) "Negative External Supply Voltage", 9 AOUT (io) "Analog Output and ZACwire(TM) Serial Data", 10 VBN (in) "Negative Input from Sensor Bridge", 11 VBR_B (power) "Negative Sensor Bridge Supply Voltage", 12 VBP (in) "Positive Input from Sensor Bridge", 13 VBR_T (power) "Positive Sensor Bridge Supply Voltage", 14 NC "Not connected"

## ZSSC3131BE2R
designator U?
Sensor Signal Conditioner for Cost-Optimized Switch Applications, 4.5 to 5.5 V Supply Voltage, -40 to 150 degC, 14-Pin SSOP, Reel, RoHS; Manufacturer: ZMDI; PartNumber: ZSSC3131BE2R; ADC Resolution: 14; Adjustable Analog Gain Values: 2.8 to 105; DatasheetVersion: Rev. 1.21; PackageReference: SSOP14; PackageDescription: 14-Pin Shrink Small Outline Package, 6.2 x 5.29 mm Body, 0.65 mm Pitch; Supplier 1: Mouser; Supplier Part Number 1: 964-ZSSC3131BE2R; Mounting Technology: Surface Mount; ComponentLink1Description: Manufacturer URL; ComponentLink1URL: http://www.zmdi.com/; ComponentLink2Description: Datasheet; ComponentLink2URL: http://zmdi.cdistore.com/datasheets/zmdi/ZSSC3131_Data_Sheet_Rev_1_21_2013-02-15.pdf; ComponentLink3Description: Package Specification; ComponentLink3URL: http://zmdi.cdistore.com/datasheets/zmdi/ZSC31150_Data_Sheet_Rev_2_00_2012-10-15.pdf
footprint ZMDI-SSOP14_N (SOP, 14-Leads, Body 6.3x5.4mm, Pitch 0.65mm, IPC Medium Density)
footprint ZMDI-SSOP14_L (SOP, 14-Leads, Body 6.3x5.4mm, Pitch 0.65mm, IPC High Density)
footprint ZMDI-SSOP14_M (SOP, 14-Leads, Body 6.3x5.4mm, Pitch 0.65mm, IPC Low Density)
pins: 1 VDDA (power) "Positive Analog Supply Voltage", 2 VSSA (power) "Negative Analog Supply Voltage", 3 SDA (io) "I2C(TM) Serial Data", 4 SCL (in) "I2C(TM) Clock", 5 NC "Not connected", 6 VDD (power) "Positive Digital Supply Voltage", 7 VDDE (power) "Positive External Supply Voltage", 8 VSSE (power) "Negative External Supply Voltage", 9 AOUT (io) "Analog Output and ZACwire(TM) Serial Data", 10 VBN (in) "Negative Input from Sensor Bridge", 11 VBR_B (power) "Negative Sensor Bridge Supply Voltage", 12 VBP (in) "Positive Input from Sensor Bridge", 13 VBR_T (power) "Positive Sensor Bridge Supply Voltage", 14 NC "Not connected"

## ZSSC3131BE2T
designator U?
Sensor Signal Conditioner for Cost-Optimized Switch Applications, 4.5 to 5.5 V Supply Voltage, -40 to 150 degC, 14-Pin SSOP, Tube, RoHS; Manufacturer: ZMDI; PartNumber: ZSSC3131BE2T; ADC Resolution: 14; Adjustable Analog Gain Values: 2.8 to 105; DatasheetVersion: Rev. 1.21; PackageReference: SSOP14; PackageDescription: 14-Pin Shrink Small Outline Package, 6.2 x 5.29 mm Body, 0.65 mm Pitch; Supplier 1: Mouser; Supplier Part Number 1: 964-ZSSC3131BE2T; Mounting Technology: Surface Mount; ComponentLink1Description: Manufacturer URL; ComponentLink1URL: http://www.zmdi.com/; ComponentLink2Description: Datasheet; ComponentLink2URL: http://zmdi.cdistore.com/datasheets/zmdi/ZSSC3131_Data_Sheet_Rev_1_21_2013-02-15.pdf; ComponentLink3Description: Package Specification; ComponentLink3URL: http://zmdi.cdistore.com/datasheets/zmdi/ZSC31150_Data_Sheet_Rev_2_00_2012-10-15.pdf
footprint ZMDI-SSOP14_N (SOP, 14-Leads, Body 6.3x5.4mm, Pitch 0.65mm, IPC Medium Density)
footprint ZMDI-SSOP14_L (SOP, 14-Leads, Body 6.3x5.4mm, Pitch 0.65mm, IPC High Density)
footprint ZMDI-SSOP14_M (SOP, 14-Leads, Body 6.3x5.4mm, Pitch 0.65mm, IPC Low Density)
pins: 1 VDDA (power) "Positive Analog Supply Voltage", 2 VSSA (power) "Negative Analog Supply Voltage", 3 SDA (io) "I2C(TM) Serial Data", 4 SCL (in) "I2C(TM) Clock", 5 NC "Not connected", 6 VDD (power) "Positive Digital Supply Voltage", 7 VDDE (power) "Positive External Supply Voltage", 8 VSSE (power) "Negative External Supply Voltage", 9 AOUT (io) "Analog Output and ZACwire(TM) Serial Data", 10 VBN (in) "Negative Input from Sensor Bridge", 11 VBR_B (power) "Negative Sensor Bridge Supply Voltage", 12 VBP (in) "Positive Input from Sensor Bridge", 13 VBR_T (power) "Positive Sensor Bridge Supply Voltage", 14 NC "Not connected"

## ZSSC3135BA2R
designator U?
Sensor Signal Conditioner for Piezoresistive Bridge Sensors, 4.5 to 5.5 V Supply Voltage, -40 to 125 degC, 14-Pin SSOP, Reel, RoHS; Manufacturer: ZMDI; PartNumber: ZSSC3135BA2R; ADC Resolution: 14; Adjustable Analog Gain Values: 2.8 to 105; DatasheetVersion: Rev. 1.21; PackageReference: SSOP14; PackageDescription: 14-Pin Shrink Small Outline Package, 6.2 x 5.29 mm Body, 0.65 mm Pitch; Supplier 1: Mouser; Supplier Part Number 1: 964-ZSSC3135BA2R; Mounting Technology: Surface Mount; ComponentLink1Description: Manufacturer URL; ComponentLink1URL: http://www.zmdi.com/; ComponentLink2Description: Datasheet; ComponentLink2URL: http://zmdi.cdistore.com/datasheets/zmdi/ZSSC3135_Data_Sheet_Rev_1_21_2013-02-15.pdf; ComponentLink3Description: Package Specification; ComponentLink3URL: http://zmdi.cdistore.com/datasheets/zmdi/ZSC31150_Data_Sheet_Rev_2_00_2012-10-15.pdf
footprint ZMDI-SSOP14_N (SOP, 14-Leads, Body 6.3x5.4mm, Pitch 0.65mm, IPC Medium Density)
footprint ZMDI-SSOP14_L (SOP, 14-Leads, Body 6.3x5.4mm, Pitch 0.65mm, IPC High Density)
footprint ZMDI-SSOP14_M (SOP, 14-Leads, Body 6.3x5.4mm, Pitch 0.65mm, IPC Low Density)
pins: 1 VDDA (power) "Positive Analog Supply Voltage", 2 VSSA (power) "Negative Analog Supply Voltage", 3 SDA (io) "I2C(TM) Serial Data", 4 SCL (in) "I2C(TM) Clock", 5 NC "Not connected", 6 VDD (power) "Positive Digital Supply Voltage", 7 VDDE (power) "Positive External Supply Voltage", 8 VSSE (power) "Negative External Supply Voltage", 9 AOUT (io) "Analog Output and ZACwire(TM) Serial Data", 10 VBN (in) "Negative Input from Sensor Bridge", 11 VBR_B (power) "Negative Sensor Bridge Supply Voltage", 12 VBP (in) "Positive Input from Sensor Bridge", 13 VBR_T (power) "Positive Sensor Bridge Supply Voltage", 14 IRTEMP "External Temperature Sensor"

## ZSSC3135BA2T
designator U?
Sensor Signal Conditioner for Piezoresistive Bridge Sensors, 4.5 to 5.5 V Supply Voltage, -40 to 125 degC, 14-Pin SSOP, Tube, RoHS; Manufacturer: ZMDI; PartNumber: ZSSC3135BA2T; ADC Resolution: 14; Adjustable Analog Gain Values: 2.8 to 105; DatasheetVersion: Rev. 1.21; PackageReference: SSOP14; PackageDescription: 14-Pin Shrink Small Outline Package, 6.2 x 5.29 mm Body, 0.65 mm Pitch; Supplier 1: Mouser; Supplier Part Number 1: 964-ZSSC3135BA2T; Mounting Technology: Surface Mount; ComponentLink1Description: Manufacturer URL; ComponentLink1URL: http://www.zmdi.com/; ComponentLink2Description: Datasheet; ComponentLink2URL: http://zmdi.cdistore.com/datasheets/zmdi/ZSSC3135_Data_Sheet_Rev_1_21_2013-02-15.pdf; ComponentLink3Description: Package Specification; ComponentLink3URL: http://zmdi.cdistore.com/datasheets/zmdi/ZSC31150_Data_Sheet_Rev_2_00_2012-10-15.pdf
footprint ZMDI-SSOP14_N (SOP, 14-Leads, Body 6.3x5.4mm, Pitch 0.65mm, IPC Medium Density)
footprint ZMDI-SSOP14_L (SOP, 14-Leads, Body 6.3x5.4mm, Pitch 0.65mm, IPC High Density)
footprint ZMDI-SSOP14_M (SOP, 14-Leads, Body 6.3x5.4mm, Pitch 0.65mm, IPC Low Density)
pins: 1 VDDA (power) "Positive Analog Supply Voltage", 2 VSSA (power) "Negative Analog Supply Voltage", 3 SDA (io) "I2C(TM) Serial Data", 4 SCL (in) "I2C(TM) Clock", 5 NC "Not connected", 6 VDD (power) "Positive Digital Supply Voltage", 7 VDDE (power) "Positive External Supply Voltage", 8 VSSE (power) "Negative External Supply Voltage", 9 AOUT (io) "Analog Output and ZACwire(TM) Serial Data", 10 VBN (in) "Negative Input from Sensor Bridge", 11 VBR_B (power) "Negative Sensor Bridge Supply Voltage", 12 VBP (in) "Positive Input from Sensor Bridge", 13 VBR_T (power) "Positive Sensor Bridge Supply Voltage", 14 IRTEMP "External Temperature Sensor"

## ZSSC3135BE2R
designator U?
Sensor Signal Conditioner for Piezoresistive Bridge Sensors, 4.5 to 5.5 V Supply Voltage, -40 to 150 degC, 14-Pin SSOP, Reel, RoHS; Manufacturer: ZMDI; PartNumber: ZSSC3135BE2R; ADC Resolution: 14; Adjustable Analog Gain Values: 2.8 to 105; DatasheetVersion: Rev. 1.21; PackageReference: SSOP14; PackageDescription: 14-Pin Shrink Small Outline Package, 6.2 x 5.29 mm Body, 0.65 mm Pitch; Supplier 1: Mouser; Supplier Part Number 1: 964-ZSSC3135BE2R; Mounting Technology: Surface Mount; ComponentLink1Description: Manufacturer URL; ComponentLink1URL: http://www.zmdi.com/; ComponentLink2Description: Datasheet; ComponentLink2URL: http://zmdi.cdistore.com/datasheets/zmdi/ZSSC3135_Data_Sheet_Rev_1_21_2013-02-15.pdf; ComponentLink3Description: Package Specification; ComponentLink3URL: http://zmdi.cdistore.com/datasheets/zmdi/ZSC31150_Data_Sheet_Rev_2_00_2012-10-15.pdf
footprint ZMDI-SSOP14_N (SOP, 14-Leads, Body 6.3x5.4mm, Pitch 0.65mm, IPC Medium Density)
footprint ZMDI-SSOP14_L (SOP, 14-Leads, Body 6.3x5.4mm, Pitch 0.65mm, IPC High Density)
footprint ZMDI-SSOP14_M (SOP, 14-Leads, Body 6.3x5.4mm, Pitch 0.65mm, IPC Low Density)
pins: 1 VDDA (power) "Positive Analog Supply Voltage", 2 VSSA (power) "Negative Analog Supply Voltage", 3 SDA (io) "I2C(TM) Serial Data", 4 SCL (in) "I2C(TM) Clock", 5 NC "Not connected", 6 VDD (power) "Positive Digital Supply Voltage", 7 VDDE (power) "Positive External Supply Voltage", 8 VSSE (power) "Negative External Supply Voltage", 9 AOUT (io) "Analog Output and ZACwire(TM) Serial Data", 10 VBN (in) "Negative Input from Sensor Bridge", 11 VBR_B (power) "Negative Sensor Bridge Supply Voltage", 12 VBP (in) "Positive Input from Sensor Bridge", 13 VBR_T (power) "Positive Sensor Bridge Supply Voltage", 14 IRTEMP "External Temperature Sensor"

## ZSSC3135BE2T
designator U?
Sensor Signal Conditioner for Piezoresistive Bridge Sensors, 4.5 to 5.5 V Supply Voltage, -40 to 150 degC, 14-Pin SSOP, Tube, RoHS; Manufacturer: ZMDI; PartNumber: ZSSC3135BE2T; ADC Resolution: 14; Adjustable Analog Gain Values: 2.8 to 105; DatasheetVersion: Rev. 1.21; PackageReference: SSOP14; PackageDescription: 14-Pin Shrink Small Outline Package, 6.2 x 5.29 mm Body, 0.65 mm Pitch; Supplier 1: Mouser; Supplier Part Number 1: 964-ZSSC3135BE2T; Mounting Technology: Surface Mount; ComponentLink1Description: Manufacturer URL; ComponentLink1URL: http://www.zmdi.com/; ComponentLink2Description: Datasheet; ComponentLink2URL: http://zmdi.cdistore.com/datasheets/zmdi/ZSSC3135_Data_Sheet_Rev_1_21_2013-02-15.pdf; ComponentLink3Description: Package Specification; ComponentLink3URL: http://zmdi.cdistore.com/datasheets/zmdi/ZSC31150_Data_Sheet_Rev_2_00_2012-10-15.pdf
footprint ZMDI-SSOP14_N (SOP, 14-Leads, Body 6.3x5.4mm, Pitch 0.65mm, IPC Medium Density)
footprint ZMDI-SSOP14_L (SOP, 14-Leads, Body 6.3x5.4mm, Pitch 0.65mm, IPC High Density)
footprint ZMDI-SSOP14_M (SOP, 14-Leads, Body 6.3x5.4mm, Pitch 0.65mm, IPC Low Density)
pins: 1 VDDA (power) "Positive Analog Supply Voltage", 2 VSSA (power) "Negative Analog Supply Voltage", 3 SDA (io) "I2C(TM) Serial Data", 4 SCL (in) "I2C(TM) Clock", 5 NC "Not connected", 6 VDD (power) "Positive Digital Supply Voltage", 7 VDDE (power) "Positive External Supply Voltage", 8 VSSE (power) "Negative External Supply Voltage", 9 AOUT (io) "Analog Output and ZACwire(TM) Serial Data", 10 VBN (in) "Negative Input from Sensor Bridge", 11 VBR_B (power) "Negative Sensor Bridge Supply Voltage", 12 VBP (in) "Positive Input from Sensor Bridge", 13 VBR_T (power) "Positive Sensor Bridge Supply Voltage", 14 IRTEMP "External Temperature Sensor"

## ZSSC3136BA2R
designator U?
Sensor Signal Conditioner for Safety Switch Applications, 4.5 to 5.5 V Supply Voltage, -40 to 125 degC, 14-Pin SSOP, Reel, RoHS; Manufacturer: ZMDI; PartNumber: ZSSC3136BA2R; ADC Resolution: 14; Adjustable Analog Gain Values: 2.8 to 105; DatasheetVersion: Rev. 1.21; PackageReference: SSOP14; PackageDescription: 14-Pin Shrink Small Outline Package, 6.2 x 5.29 mm Body, 0.65 mm Pitch; Supplier 1: Mouser; Supplier Part Number 1: 964-ZSSC3136BA2R; Mounting Technology: Surface Mount; ComponentLink1Description: Manufacturer URL; ComponentLink1URL: http://www.zmdi.com/; ComponentLink2Description: Datasheet; ComponentLink2URL: http://zmdi.cdistore.com/datasheets/zmdi/ZSSC3136_Data_Sheet_Rev_1_21_2013-02-15.pdf; ComponentLink3Description: Package Specification; ComponentLink3URL: http://zmdi.cdistore.com/datasheets/zmdi/ZSC31150_Data_Sheet_Rev_2_00_2012-10-15.pdf
footprint ZMDI-SSOP14_N (SOP, 14-Leads, Body 6.3x5.4mm, Pitch 0.65mm, IPC Medium Density)
footprint ZMDI-SSOP14_L (SOP, 14-Leads, Body 6.3x5.4mm, Pitch 0.65mm, IPC High Density)
footprint ZMDI-SSOP14_M (SOP, 14-Leads, Body 6.3x5.4mm, Pitch 0.65mm, IPC Low Density)
pins: 1 VDDA (power) "Positive Analog Supply Voltage", 2 VSSA (power) "Negative Analog Supply Voltage", 3 SDA (io) "I2C(TM) Serial Data", 4 SCL (in) "I2C(TM) Clock", 5 NC "Not connected", 6 VDD (power) "Positive Digital Supply Voltage", 7 VDDE (power) "Positive External Supply Voltage", 8 VSSE (power) "Negative External Supply Voltage", 9 AOUT (io) "Analog Output and ZACwire(TM) Serial Data", 10 VBN (in) "Negative Input from Sensor Bridge", 11 VBR_B (power) "Negative Sensor Bridge Supply Voltage", 12 VBP (in) "Positive Input from Sensor Bridge", 13 VBR_T (power) "Positive Sensor Bridge Supply Voltage", 14 IRTEMP "External Temperature Sensor"

## ZSSC3136BA2T
designator U?
Sensor Signal Conditioner for Safety Switch Applications, 4.5 to 5.5 V Supply Voltage, -40 to 125 degC, 14-Pin SSOP, Tube, RoHS; Manufacturer: ZMDI; PartNumber: ZSSC3136BA2T; ADC Resolution: 14; Adjustable Analog Gain Values: 2.8 to 105; DatasheetVersion: Rev. 1.21; PackageReference: SSOP14; PackageDescription: 14-Pin Shrink Small Outline Package, 6.2 x 5.29 mm Body, 0.65 mm Pitch; Supplier 1: Mouser; Supplier Part Number 1: 964-ZSSC3136BA2T; Mounting Technology: Surface Mount; ComponentLink1Description: Manufacturer URL; ComponentLink1URL: http://www.zmdi.com/; ComponentLink2Description: Datasheet; ComponentLink2URL: http://zmdi.cdistore.com/datasheets/zmdi/ZSSC3136_Data_Sheet_Rev_1_21_2013-02-15.pdf; ComponentLink3Description: Package Specification; ComponentLink3URL: http://zmdi.cdistore.com/datasheets/zmdi/ZSC31150_Data_Sheet_Rev_2_00_2012-10-15.pdf
footprint ZMDI-SSOP14_N (SOP, 14-Leads, Body 6.3x5.4mm, Pitch 0.65mm, IPC Medium Density)
footprint ZMDI-SSOP14_L (SOP, 14-Leads, Body 6.3x5.4mm, Pitch 0.65mm, IPC High Density)
footprint ZMDI-SSOP14_M (SOP, 14-Leads, Body 6.3x5.4mm, Pitch 0.65mm, IPC Low Density)
pins: 1 VDDA (power) "Positive Analog Supply Voltage", 2 VSSA (power) "Negative Analog Supply Voltage", 3 SDA (io) "I2C(TM) Serial Data", 4 SCL (in) "I2C(TM) Clock", 5 NC "Not connected", 6 VDD (power) "Positive Digital Supply Voltage", 7 VDDE (power) "Positive External Supply Voltage", 8 VSSE (power) "Negative External Supply Voltage", 9 AOUT (io) "Analog Output and ZACwire(TM) Serial Data", 10 VBN (in) "Negative Input from Sensor Bridge", 11 VBR_B (power) "Negative Sensor Bridge Supply Voltage", 12 VBP (in) "Positive Input from Sensor Bridge", 13 VBR_T (power) "Positive Sensor Bridge Supply Voltage", 14 IRTEMP "External Temperature Sensor"

## ZSSC3136BE2R
designator U?
Sensor Signal Conditioner for Safety Switch Applications, 4.5 to 5.5 V Supply Voltage, -40 to 150 degC, 14-Pin SSOP, Reel, RoHS; Manufacturer: ZMDI; PartNumber: ZSSC3136BE2R; ADC Resolution: 14; Adjustable Analog Gain Values: 2.8 to 105; DatasheetVersion: Rev. 1.21; PackageReference: SSOP14; PackageDescription: 14-Pin Shrink Small Outline Package, 6.2 x 5.29 mm Body, 0.65 mm Pitch; Supplier 1: Mouser; Supplier Part Number 1: 964-ZSSC3136BE2R; Mounting Technology: Surface Mount; ComponentLink1Description: Manufacturer URL; ComponentLink1URL: http://www.zmdi.com/; ComponentLink2Description: Datasheet; ComponentLink2URL: http://zmdi.cdistore.com/datasheets/zmdi/ZSSC3136_Data_Sheet_Rev_1_21_2013-02-15.pdf; ComponentLink3Description: Package Specification; ComponentLink3URL: http://zmdi.cdistore.com/datasheets/zmdi/ZSC31150_Data_Sheet_Rev_2_00_2012-10-15.pdf
footprint ZMDI-SSOP14_N (SOP, 14-Leads, Body 6.3x5.4mm, Pitch 0.65mm, IPC Medium Density)
footprint ZMDI-SSOP14_L (SOP, 14-Leads, Body 6.3x5.4mm, Pitch 0.65mm, IPC High Density)
footprint ZMDI-SSOP14_M (SOP, 14-Leads, Body 6.3x5.4mm, Pitch 0.65mm, IPC Low Density)
pins: 1 VDDA (power) "Positive Analog Supply Voltage", 2 VSSA (power) "Negative Analog Supply Voltage", 3 SDA (io) "I2C(TM) Serial Data", 4 SCL (in) "I2C(TM) Clock", 5 NC "Not connected", 6 VDD (power) "Positive Digital Supply Voltage", 7 VDDE (power) "Positive External Supply Voltage", 8 VSSE (power) "Negative External Supply Voltage", 9 AOUT (io) "Analog Output and ZACwire(TM) Serial Data", 10 VBN (in) "Negative Input from Sensor Bridge", 11 VBR_B (power) "Negative Sensor Bridge Supply Voltage", 12 VBP (in) "Positive Input from Sensor Bridge", 13 VBR_T (power) "Positive Sensor Bridge Supply Voltage", 14 IRTEMP "External Temperature Sensor"

## ZSSC3136BE2T
designator U?
Sensor Signal Conditioner for Safety Switch Applications, 4.5 to 5.5 V Supply Voltage, -40 to 150 degC, 14-Pin SSOP, Tube, RoHS; Manufacturer: ZMDI; PartNumber: ZSSC3136BE2T; ADC Resolution: 14; Adjustable Analog Gain Values: 2.8 to 105; DatasheetVersion: Rev. 1.21; PackageReference: SSOP14; PackageDescription: 14-Pin Shrink Small Outline Package, 6.2 x 5.29 mm Body, 0.65 mm Pitch; Supplier 1: Mouser; Supplier Part Number 1: 964-ZSSC3136BE2T; Mounting Technology: Surface Mount; ComponentLink1Description: Manufacturer URL; ComponentLink1URL: http://www.zmdi.com/; ComponentLink2Description: Datasheet; ComponentLink2URL: http://zmdi.cdistore.com/datasheets/zmdi/ZSSC3136_Data_Sheet_Rev_1_21_2013-02-15.pdf; ComponentLink3Description: Package Specification; ComponentLink3URL: http://zmdi.cdistore.com/datasheets/zmdi/ZSC31150_Data_Sheet_Rev_2_00_2012-10-15.pdf
footprint ZMDI-SSOP14_N (SOP, 14-Leads, Body 6.3x5.4mm, Pitch 0.65mm, IPC Medium Density)
footprint ZMDI-SSOP14_L (SOP, 14-Leads, Body 6.3x5.4mm, Pitch 0.65mm, IPC High Density)
footprint ZMDI-SSOP14_M (SOP, 14-Leads, Body 6.3x5.4mm, Pitch 0.65mm, IPC Low Density)
pins: 1 VDDA (power) "Positive Analog Supply Voltage", 2 VSSA (power) "Negative Analog Supply Voltage", 3 SDA (io) "I2C(TM) Serial Data", 4 SCL (in) "I2C(TM) Clock", 5 NC "Not connected", 6 VDD (power) "Positive Digital Supply Voltage", 7 VDDE (power) "Positive External Supply Voltage", 8 VSSE (power) "Negative External Supply Voltage", 9 AOUT (io) "Analog Output and ZACwire(TM) Serial Data", 10 VBN (in) "Negative Input from Sensor Bridge", 11 VBR_B (power) "Negative Sensor Bridge Supply Voltage", 12 VBP (in) "Positive Input from Sensor Bridge", 13 VBR_T (power) "Positive Sensor Bridge Supply Voltage", 14 IRTEMP "External Temperature Sensor"

## ZSSC3138BA2R
designator U?
Sensor Signal Conditioner for Ceramic Sensor Applications, 4.5 to 5.5 V Supply Voltage, -40 to 125 degC, 14-Pin SSOP, Reel, RoHS; Manufacturer: ZMDI; PartNumber: ZSSC3138BA2R; ADC Resolution: 16; Adjustable Analog Gain Values: 2.8 to 420; DatasheetVersion: Rev. 1.21; PackageReference: SSOP14; PackageDescription: 14-Pin Shrink Small Outline Package, 6.2 x 5.29 mm Body, 0.65 mm Pitch; Supplier 1: Mouser; Supplier Part Number 1: 964-ZSSC3138BA2R; Mounting Technology: Surface Mount; ComponentLink1Description: Manufacturer URL; ComponentLink1URL: http://www.zmdi.com/; ComponentLink2Description: Datasheet; ComponentLink2URL: http://zmdi.cdistore.com/datasheets/zmdi/ZSSC3138_Data_Sheet_Rev_1_21_2013-02-15.pdf; ComponentLink3Description: Package Specification; ComponentLink3URL: http://zmdi.cdistore.com/datasheets/zmdi/ZSC31150_Data_Sheet_Rev_2_00_2012-10-15.pdf
footprint ZMDI-SSOP14_N (SOP, 14-Leads, Body 6.3x5.4mm, Pitch 0.65mm, IPC Medium Density)
footprint ZMDI-SSOP14_L (SOP, 14-Leads, Body 6.3x5.4mm, Pitch 0.65mm, IPC High Density)
footprint ZMDI-SSOP14_M (SOP, 14-Leads, Body 6.3x5.4mm, Pitch 0.65mm, IPC Low Density)
pins: 1 VDDA (power) "Positive Analog Supply Voltage", 2 VSSA (power) "Negative Analog Supply Voltage", 3 SDA (io) "I2C(TM) Serial Data", 4 SCL (in) "I2C(TM) Clock", 5 NC "Not connected", 6 VDD (power) "Positive Digital Supply Voltage", 7 VDDE (power) "Positive External Supply Voltage", 8 VSSE (power) "Negative External Supply Voltage", 9 AOUT (io) "Analog Output and ZACwire(TM) Serial Data", 10 VBN (in) "Negative Input from Sensor Bridge", 11 VBR_B (power) "Negative Sensor Bridge Supply Voltage", 12 VBP (in) "Positive Input from Sensor Bridge", 13 VBR_T (power) "Positive Sensor Bridge Supply Voltage", 14 NC "Not connected"

## ZSSC3138BA2T
designator U?
Sensor Signal Conditioner for Ceramic Sensor Applications, 4.5 to 5.5 V Supply Voltage, -40 to 125 degC, 14-Pin SSOP, Tube, RoHS; Manufacturer: ZMDI; PartNumber: ZSSC3138BA2T; ADC Resolution: 16; Adjustable Analog Gain Values: 2.8 to 420; DatasheetVersion: Rev. 1.21; PackageReference: SSOP14; PackageDescription: 14-Pin Shrink Small Outline Package, 6.2 x 5.29 mm Body, 0.65 mm Pitch; Supplier 1: Mouser; Supplier Part Number 1: 964-ZSSC3138BA2T; Mounting Technology: Surface Mount; ComponentLink1Description: Manufacturer URL; ComponentLink1URL: http://www.zmdi.com/; ComponentLink2Description: Datasheet; ComponentLink2URL: http://zmdi.cdistore.com/datasheets/zmdi/ZSSC3138_Data_Sheet_Rev_1_21_2013-02-15.pdf; ComponentLink3Description: Package Specification; ComponentLink3URL: http://zmdi.cdistore.com/datasheets/zmdi/ZSC31150_Data_Sheet_Rev_2_00_2012-10-15.pdf
footprint ZMDI-SSOP14_N (SOP, 14-Leads, Body 6.3x5.4mm, Pitch 0.65mm, IPC Medium Density)
footprint ZMDI-SSOP14_L (SOP, 14-Leads, Body 6.3x5.4mm, Pitch 0.65mm, IPC High Density)
footprint ZMDI-SSOP14_M (SOP, 14-Leads, Body 6.3x5.4mm, Pitch 0.65mm, IPC Low Density)
pins: 1 VDDA (power) "Positive Analog Supply Voltage", 2 VSSA (power) "Negative Analog Supply Voltage", 3 SDA (io) "I2C(TM) Serial Data", 4 SCL (in) "I2C(TM) Clock", 5 NC "Not connected", 6 VDD (power) "Positive Digital Supply Voltage", 7 VDDE (power) "Positive External Supply Voltage", 8 VSSE (power) "Negative External Supply Voltage", 9 AOUT (io) "Analog Output and ZACwire(TM) Serial Data", 10 VBN (in) "Negative Input from Sensor Bridge", 11 VBR_B (power) "Negative Sensor Bridge Supply Voltage", 12 VBP (in) "Positive Input from Sensor Bridge", 13 VBR_T (power) "Positive Sensor Bridge Supply Voltage", 14 NC "Not connected"

## ZSSC3138BE2R
designator U?
Sensor Signal Conditioner for Ceramic Sensor Applications, 4.5 to 5.5 V Supply Voltage, -40 to 150 degC, 14-Pin SSOP, Reel, RoHS; Manufacturer: ZMDI; PartNumber: ZSSC3138BE2R; ADC Resolution: 16; Adjustable Analog Gain Values: 2.8 to 420; DatasheetVersion: Rev. 1.21; PackageReference: SSOP14; PackageDescription: 14-Pin Shrink Small Outline Package, 6.2 x 5.29 mm Body, 0.65 mm Pitch; Supplier 1: Mouser; Supplier Part Number 1: 964-ZSSC3138BE2R; Mounting Technology: Surface Mount; ComponentLink1Description: Manufacturer URL; ComponentLink1URL: http://www.zmdi.com/; ComponentLink2Description: Datasheet; ComponentLink2URL: http://zmdi.cdistore.com/datasheets/zmdi/ZSSC3138_Data_Sheet_Rev_1_21_2013-02-15.pdf; ComponentLink3Description: Package Specification; ComponentLink3URL: http://zmdi.cdistore.com/datasheets/zmdi/ZSC31150_Data_Sheet_Rev_2_00_2012-10-15.pdf
footprint ZMDI-SSOP14_N (SOP, 14-Leads, Body 6.3x5.4mm, Pitch 0.65mm, IPC Medium Density)
footprint ZMDI-SSOP14_L (SOP, 14-Leads, Body 6.3x5.4mm, Pitch 0.65mm, IPC High Density)
footprint ZMDI-SSOP14_M (SOP, 14-Leads, Body 6.3x5.4mm, Pitch 0.65mm, IPC Low Density)
pins: 1 VDDA (power) "Positive Analog Supply Voltage", 2 VSSA (power) "Negative Analog Supply Voltage", 3 SDA (io) "I2C(TM) Serial Data", 4 SCL (in) "I2C(TM) Clock", 5 NC "Not connected", 6 VDD (power) "Positive Digital Supply Voltage", 7 VDDE (power) "Positive External Supply Voltage", 8 VSSE (power) "Negative External Supply Voltage", 9 AOUT (io) "Analog Output and ZACwire(TM) Serial Data", 10 VBN (in) "Negative Input from Sensor Bridge", 11 VBR_B (power) "Negative Sensor Bridge Supply Voltage", 12 VBP (in) "Positive Input from Sensor Bridge", 13 VBR_T (power) "Positive Sensor Bridge Supply Voltage", 14 NC "Not connected"